# EAGLE library part TPS2513A-Q1 (library _mtvl.power)
TPS2513a-Q1 Dedicated Charging Port Controller
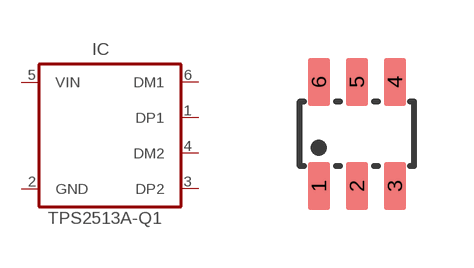
[diagram p3: symbol with the pads of SOT23-6; footprint SOT23-6]

Designator prefix IC

## TPS2513A-Q1  [SOT23-6]
1  DP1
2  GND
3  DP2
4  DM2
5  VIN
6  DM1

## Footprint SOT23-6 (pad centres in mm)
smd 0.55 x 1.2: 1 -0.95,-1.3; 2 0,-1.3; 3 0.95,-1.3; 4 0.95,1.3; 5 0,1.3; 6 -0.95,1.3